# Altium footprint library Conn_Taoglas_RECE.20279.001E.01_eec_0.PcbLib: 1 footprints
Each footprint in its own frame and in the unit in brackets; x right, y up, seen from the top. Pads: shape width x height; smd on the part's side, far side on the other; paste and mask are expansions set on the pad; w line width, h text height; cw(c..) or ccw(c..) is an arc to the next point about the centre after c.
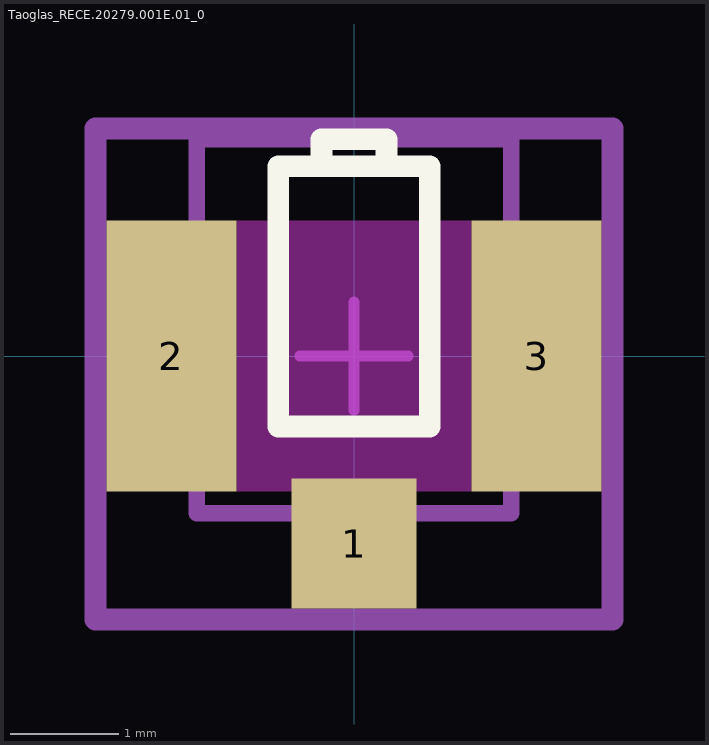
[diagram p0: the footprint, top view; thin cyan lines are the x and y axes]

## Taoglas_RECE.20279.001E.01_0 [mm]
pads (3):
  rect 1.15x1.2 smd paste+0 mask+0: 1(0,-1.73)
  rect 1.2x2.5 smd paste+0 mask+0: 2(-1.685,0) 3(1.685,0)
Top Overlay:
  lines w0.2: -0.7,-0.65 0.7,-0.65 0.7,1.75 -0.7,1.75 -0.7,-0.65 ; -0.3,1.75 0.3,1.75 0.3,2 -0.3,2 -0.3,1.75
Keep-Out Layer:
  rectangle: -1.085,-1.25 1.085,1.25
Mechanical 10:
  lines w0.2: -2.385,-2.43 2.385,-2.43 2.385,2.1 -2.385,2.1 -2.385,-2.43
  text ".Designator" at 0,-0.165 h1
Mechanical 12:
  lines w0.15: -1.45,-1.45 1.45,-1.45 1.45,2 -1.45,2 -1.45,-1.45
Mechanical 15:
  lines w0.1: -0.5,0 0.5,0 ; 0,-0.5 0,0.5
  lines w0.2: -2.385,-2.43 2.385,-2.43 2.385,2.1 -2.385,2.1 -2.385,-2.43
3D body "Conn_Taoglas_RECE.20279.001E.01_eec.STEP": height 0.25, standoff 0, extent -2.385,-2.43 2.385,2.1